# Altium schematic symbol library Relay_HF32F-005-ZS3.SchLib: 1 symbol
Pins are listed as number, name and electrical type; pins without a type are passive.

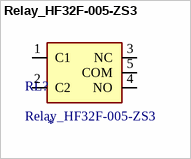
[diagram p0: symbol Relay_HF32F-005-ZS3]

## Relay_HF32F-005-ZS3
designator RL?
AgNi 5V 3A SPDT (1 Form C) 5 Plugin,10.2x18.4mm  Power Relays ROHS; LCSC: *
footprint Relay_HF32F-005-ZS3
pins: 1 C1, 2 C2, 3 NC, 4 NO, 5 COM